# Altium schematic symbol library switches.SchLib: 1 symbol
Pins are listed as number, name and electrical type; pins without a type are passive.

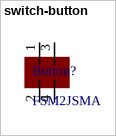
[diagram p0: symbol switch-button]

## switch-button
designator Button?, comment FSM2JSMA
footprint Button (copied from 256 SoG)
pins: 1, 2, 3, 4